# Altium schematic symbol library Capacitor_0805.SchLib: 1 symbol
Pins are listed as number, name and electrical type; pins without a type are passive.

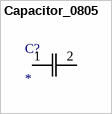
[diagram p0: symbol Capacitor_0805]

## Capacitor_0805
designator C?
No Description Available; Mfr_Name: Yageo
footprint CAPC220145_88N_KEM
pins: 1, 2